# Altium schematic symbol library Molex_430450218.SchLib: 1 symbol
Pins are listed as number, name and electrical type; pins without a type are passive.

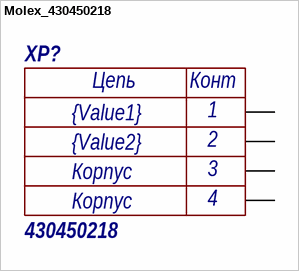
[diagram p0: symbol Molex_430450218]

## Molex_430450218
designator XP?, comment 430450218  Value3: Корпус  Value2: {Value2}  Value1: {Value1}
Value4: Корпус
pins: 0, 0, 1, 2
text: Цепь; Конт; 3; 4